# EAGLE library part DTM13-12P (library con-TE-DTM13)
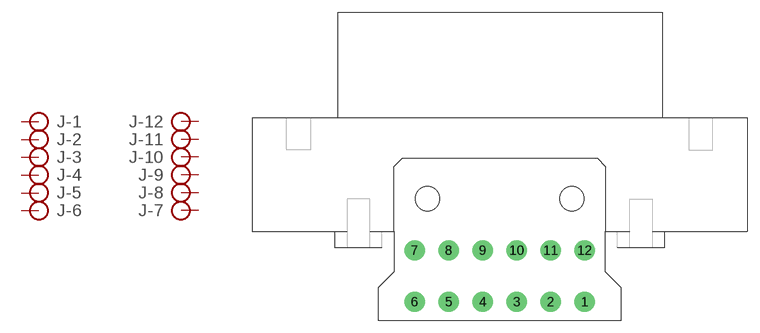
[diagram p0: symbol with the pads of DTM13-12P; footprint DTM13-12P]

Designator prefix J; gates -1=PIN -2=PIN -7=PIN_R -3=PIN -4=PIN -5=PIN -6=PIN -8=PIN_R -9=PIN_R -10=PIN_R -11=PIN_R -12=PIN_R

## DTM13-12PA (MF: TE Deutsch; MPN: DTM13-12PA), DTM13-12PB (MF: TE Deutsch; MPN: DTM13-12PB), DTM13-12PC (MF: TE Deutsch; MPN: DTM13-12PC), DTM13-12PD (MF: TE Deutsch; MPN: DTM13-12PD)  [DTM13-12P]
1  -1:P  pas
2  -2:P  pas
3  -3:P  pas
4  -4:P  pas
5  -5:P  pas
6  -6:P  pas
7  -7:P  pas
8  -8:P  pas
9  -9:P  pas
10  -10:P  pas
11  -11:P  pas
12  -12:P  pas

## Footprint DTM13-12P (pad centres in mm)
drill 1.4 pad 2.5: 1 10.475,-12.7; 2 6.285,-12.7; 3 2.095,-12.7; 4 -2.095,-12.7; 5 -6.285,-12.7; 6 -10.475,-12.7; 7 -10.475,-6.35; 8 -6.285,-6.35; 9 -2.095,-6.35; 10 2.095,-6.35; 11 6.285,-6.35; 12 10.475,-6.35
hole 3 at 8.89,0
hole 3 at -8.89,0